# Altium footprint library HMC2003_module.PcbLib: 29 footprints (part 2 of 2)
Each footprint in its own frame and in the unit in brackets; x right, y up, seen from the top. Pads: shape width x height; smd on the part's side, far side on the other; paste and mask are expansions set on the pad; w line width, h text height; cw(c..) or ccw(c..) is an arc to the next point about the centre after c.
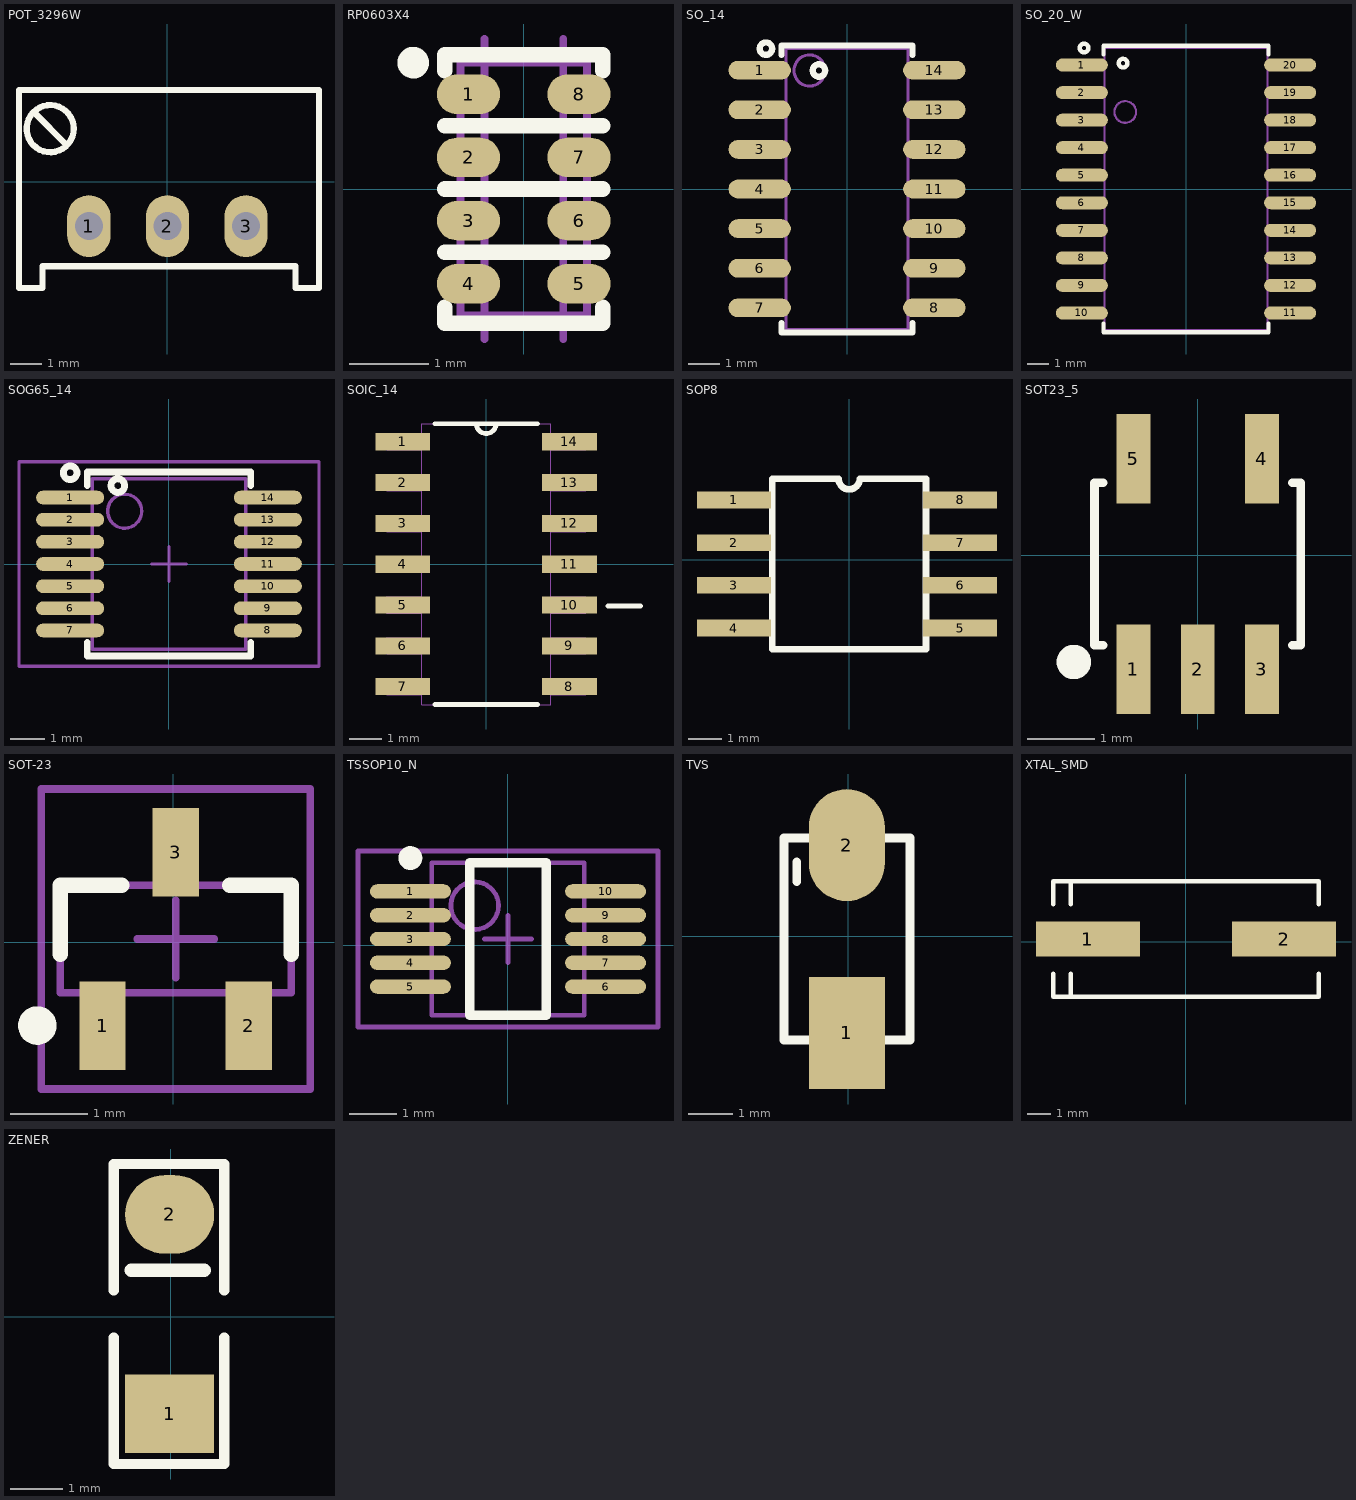
[diagram p1: the footprints below, top view; thin cyan lines are the x and y axes]

## POT_3296W [mm] "POT, TRIM, 10.0X5.0mm, pitch: 2.5mm 3299W 3296W S64W"
pads (3):
  oval 1.4x2 / inner round 1.2 / far side oval 1.4x2 hole 0.9: 1(-2.537,-1.43) 2(0.003,-1.43) 3(2.543,-1.43)
Top Overlay:
  circle w0.2: c-3.788,1.721 r0.762
  lines w0.2: -4.296,2.229 -3.28,1.213 ; -4.797,-3.43 -4.042,-3.43 -4.042,-2.73 4.148,-2.73 4.148,-3.43 4.903,-3.43 4.903,2.97 -4.797,2.97 -4.797,-3.43
3D body "pot 3299W-1-103RLF.step": height 11.56, standoff -6.22, extent -4.722,-3.278 4.803,2.818

## RP0603X4 [mm] "RPACK, 0603X4, 160X80X4 1206"
height 0.4
pads (8):
  oval 0.8x0.5 smd: 1(-0.7,1.2) 2(-0.7,0.4) 3(-0.7,-0.4) 4(-0.7,-1.2) 5(0.7,-1.2) 6(0.7,-0.4) 7(0.7,0.4) 8(0.7,1.2)
Top Overlay:
  circle w0.2: c-1.4,1.6 r0.1
  lines w0.2: -1,-1.5 -1,-1.7 1,-1.7 1,-1.5 ; -1,-0.8 1,-0.8 ; -1,0 1,0 ; -1,0.8 1,0.8 ; -1,1.5 -1,1.7 1,1.7 1,1.5
Mechanical 13:
  lines w0.1: -0.5,-1.9 -0.5,1.9 ; 0.5,-1.9 0.5,1.9 ; -0.8,-1.6 0.8,-1.6 0.8,1.6 -0.8,1.6 -0.8,-1.6
  text "0603X4" at -1.3,-2.6 h0.5
  text "4X0402" at -1.3,2.1 h0.5
3D body "User Library-Array-1206-4Way-Var1.STEP": height 0.5, standoff 0, extent -0.8,-1.6 0.8,1.6

## SO_14 [mm] "SOP, SOIC, 3.9mm width, 1.27mm pitch,"
pads (14):
  oval 2x0.6 smd: 1(-2.8,3.81) 2(-2.8,2.54) 3(-2.8,1.27) 4(-2.8,0) 5(-2.8,-1.27) 6(-2.8,-2.54) 7(-2.8,-3.81) 8(2.8,-3.81) 9(2.8,-2.54) 10(2.8,-1.27) 11(2.8,0) 12(2.8,1.27) 13(2.8,2.54) 14(2.8,3.81)
Top Overlay:
  circle w0.2: c-2.6,4.5 r0.2
  circle w0.2: c-0.9,3.8 r0.2
  lines w0.2: -2.1,-4.3 -2.1,-4.6 2.1,-4.6 2.1,-4.3 ; -2.1,4.3 -2.1,4.6 2.1,4.6 2.1,4.3
Mechanical 13:
  circle w0.1: c-1.2,3.8 r0.5
  lines w0.1: -1.95,-4.5 1.95,-4.5 1.95,4.5 -1.95,4.5 -1.95,-4.5
3D body "User Library-SOIC14_JEDEC_MS-012AB.step": height 1.75, standoff -0.01, extent -3.1,-4.375 3.1,4.375

## SO_20_W [mm] "SOP, SOIC, 7.5mm width, 1.27mm pitch,"
pads (20):
  oval 2.4x0.6 smd: 1(-4.8,5.715) 2(-4.8,4.445) 3(-4.8,3.175) 4(-4.8,1.905) 5(-4.8,0.635) 6(-4.8,-0.635) 7(-4.8,-1.905) 8(-4.8,-3.175) 9(-4.8,-4.445) 10(-4.8,-5.715) 11(4.8,-5.715) 12(4.8,-4.445) 13(4.8,-3.175) 14(4.8,-1.905) 15(4.8,-0.635) 16(4.8,0.635) 17(4.8,1.905) 18(4.8,3.175) 19(4.8,4.445) 20(4.8,5.715)
Top Overlay:
  circle w0.2: c-2.9,5.8 r0.2
  circle w0.2: c-4.7,6.5 r0.2
  lines w0.2: -3.8,-6.2 -3.8,-6.6 3.8,-6.6 3.8,-6.2 ; -3.8,6.2 -3.8,6.6 3.8,6.6 3.8,6.2
Mechanical 13:
  circle w0.1: c-2.8,3.55 r0.5
  lines w0.1: -3.75,-6.5 3.75,-6.5 3.75,6.5 -3.75,6.5 -3.75,-6.5
3D body "User Library-SOIC20_W.STEP": height 2.65, standoff 0, extent -5.325,-6.5 5.325,6.5

## SOG65_14 [mm] "PW TSSOP (TI), MO-153-AB (JEDEC), 14Lead, pitch: 0.65mm, 5x4.4x1.2mm"
height 1.2
pads (14):
  oval 2x0.4 smd: 1(-2.9,1.95) 2(-2.9,1.3) 3(-2.9,0.65) 4(-2.9,0) 5(-2.9,-0.65) 6(-2.9,-1.3) 7(-2.9,-1.95) 8(2.9,-1.95) 9(2.9,-1.3) 10(2.9,-0.65) 11(2.9,0) 12(2.9,0.65) 13(2.9,1.3) 14(2.9,1.95)
Top Overlay:
  circle w0.2: c-2.9,2.675 r0.2
  circle w0.2: c-1.5,2.3 r0.2
  lines w0.2: -2.4,-2.3 -2.4,-2.7 2.4,-2.7 2.4,-2.3 ; -2.4,2.3 -2.4,2.7 2.4,2.7 2.4,2.3
Mechanical 13:
  circle w0.1: c-1.3,1.55 r0.5
  lines w0.1: -2.25,-2.5 -2.25,2.5 2.25,2.5 2.25,-2.5 -2.25,-2.5
Mechanical 15:
  lines w0.1: -0.5,0 0.5,0 ; 0,-0.5 0,0.5 ; -4.4,-3 -4.4,3 4.4,3 4.4,-3 -4.4,-3
3D body "User Library-TSSOP14-1.step": height 1.1, standoff 0, extent -3.2,-2.5 3.2,2.5

## SOIC_14 [mil]
pads (14):
  rect 67x21 smd: 1(-102,150) 2(-102,100) 3(-102,50) 4(-102,0) 5(-102,-50) 6(-102,-100) 7(-102,-150) 8(102,-150) 9(102,-100) 10(102,-50) 11(102,0) 12(102,50) 13(102,100) 14(102,150)
Top Overlay:
  lines w6: -63,-172 63,-172 ; -63,172 -12,172 ; 63,172 12,172 ; 149,-51 189,-51 ; -12,172 ccw(c0,172) 12,172 ; -12,172 12,172
Mechanical 13:
  lines w0: -12,172 ccw(c0,172) 12,172 ; -12,172 12,172 ; -12,172 -79,172 -79,-172 79,-172 79,172 12,172 ; -122,-160 -122,-140 -79,-140 -79,-160 -122,-160 ; -122,-110 -122,-90 -79,-90 -79,-110 -122,-110 ; -122,-60 -122,-40 -79,-40 -79,-60 -122,-60 ; -122,-10 -122,10 -79,10 -79,-10 -122,-10 ; -122,40 -122,60 -79,60 -79,40 -122,40 ; -122,90 -122,110 -79,110 -79,90 -122,90 ; -122,140 -122,160 -79,160 -79,140 -122,140 ; 79,-160 79,-140 122,-140 122,-160 79,-160 ; 79,-110 79,-90 122,-90 122,-110 79,-110 ; 79,-60 79,-40 122,-40 122,-60 79,-60 ; 79,-10 79,10 122,10 122,-10 79,-10 ; 79,40 79,60 122,60 122,40 79,40 ; 79,90 79,110 122,110 122,90 79,90 ; 79,140 79,160 122,160 122,140 79,140

## SOP8 [mm]
pads (8):
  rect 2.2x0.5 smd: 1(-3.429,1.778) 2(-3.429,0.508) 3(-3.429,-0.762) 4(-3.429,-2.032) 5(3.298,-2.032) 6(3.298,-0.762) 7(3.298,0.508) 8(3.298,1.778)
Top Overlay:
  lines w0.2: -2.286,-2.667 -2.286,2.413 -0.32,2.413 ccw(c-0.002,2.413) 0.315,2.413 2.286,2.413 2.286,-2.667 -2.286,-2.667
3D body "User Library-so8-3.step": height 1.7, standoff 0, extent -3.006,-2.564 2.994,2.336

## SOT23_5 [mm]
pads (5):
  rect 0.5x1.321 smd: 1(-0.95,-1.683) 2(0,-1.683) 3(0.95,-1.683) 4(0.95,1.429) 5(-0.95,1.429)
Top Overlay:
  circle w0.254: c-1.829,-1.575 r0.127
  lines w0.127: -1.397,-1.327 -1.524,-1.327 -1.524,-0.127 -1.524,1.073 -1.397,1.073 ; 1.397,-1.327 1.524,-1.327 1.524,-0.127 1.524,1.073 1.397,1.073
3D body "TLE4966.STEP": height 1.3, standoff 0, extent -1.5,-1.627 1.5,1.373

## SOT-23 [mm]
pads (3):
  rect 0.6x1.15 smd: 1(-0.919,-1.081) 2(0.981,-1.081) 3(0.031,1.169)
Top Overlay:
  circle w0.25: c-1.769,-1.081 r0.125
  lines w0.2: -1.469,-0.156 -1.469,0.744 -0.669,0.744 ; 0.731,0.744 1.531,0.744 1.531,-0.156
Mechanical 13:
  lines w0.1: -1.469,-0.656 -1.469,0.744 1.531,0.744 1.531,-0.656 -1.469,-0.656
Mechanical 15:
  lines w0.1: -0.469,0.044 0.531,0.044 ; 0.031,-0.456 0.031,0.544 ; -1.719,-1.906 -1.719,1.994 1.781,1.994 1.781,-1.906 -1.719,-1.906
3D body "User Library-N-MOS_BSS123_SOT23.STEP": height 1, standoff 0, extent -1.419,-1.181 1.481,1.119

## TSSOP10_N [mm]
pads (10):
  oval 1.7x0.3 smd: 1(-2.05,1.127) 2(-2.05,0.627) 3(-2.05,0.127) 4(-2.05,-0.373) 5(-2.05,-0.873) 6(2.05,-0.873) 7(2.05,-0.373) 8(2.05,0.127) 9(2.05,0.627) 10(2.05,1.127)
Top Overlay:
  circle w0.25: c-2.05,1.827 r0.125
  lines w0.2: -0.8,-1.473 -0.8,1.727 0.8,1.727 0.8,-1.473 -0.8,-1.473
Mechanical 13:
  circle w0.1: c-0.7,0.827 r0.5
  lines w0.1: -1.6,-1.473 -1.6,1.727 1.6,1.727 1.6,-1.473 -1.6,-1.473
Mechanical 15:
  lines w0.1: -0.5,0.127 0.5,0.127 ; 0,-0.373 0,0.627 ; -3.15,-1.723 -3.15,1.977 3.15,1.977 3.15,-1.723 -3.15,-1.723
3D body: height 1.1, standoff 0, extent -1.6,-1.473 1.6,1.727

## TVS [mm]
pads (2):
  rect 1.7x2.5 smd: 1(-0.025,-2.159)
  oval 1.7x2.5 smd: 2(-0.025,2.032)
Top Overlay:
  lines w0.2: -1.143,1.219 -1.143,1.651 ; -1.422,-2.316 -1.422,2.184 1.378,2.184 1.378,-2.316 -1.422,-2.316
3D body: height 2.23, standoff 0, extent -1.502,1.803 1.422,2.007
3D body: height 2.2, standoff 0, extent -1.499,-2.54 1.421,2.515
3D body: height 1.5, standoff 0, extent -1.016,-2.756 0.965,-2.527
3D body: height 1.5, standoff 0, extent -1.016,2.515 0.965,2.743

## XTAL_SMD [mm]
pads (2):
  rect 4.5x1.5 smd: 1(-4.243,0.117) 2(4.257,0.117)
Top Overlay:
  lines w0.2: -5.743,-1.383 -5.743,-2.383 5.757,-2.383 5.757,-1.383 ; -5.743,1.617 -5.743,2.617 5.757,2.617 5.757,1.617 ; -4.993,-2.383 -4.993,-1.383 ; -4.993,1.617 -4.993,2.617
3D body "User Library-HC49_SMD.STEP": height 5.18, standoff 0, extent -6.202,-2.133 6.098,2.367

## ZENER [mm]
pads (2):
  rect 1.7x1.5 smd mask+0.102: 1(-0.025,-1.854)
  oval 1.7x1.5 smd: 2(-0.025,1.956)
Top Overlay:
  lines w0.2: -1.092,-0.406 -1.092,-2.819 1.016,-2.819 1.016,-0.406 ; -1.092,0.508 -1.092,2.921 1.016,2.921 1.016,0.508
  lines w0.254: -0.762,0.889 0.635,0.889
3D body: height 1.6, standoff 0, extent -0.822,1.399 0.771,1.499
3D body: height 1.6, standoff 0, extent -0.822,-1.778 0.771,-1.378
3D body: height 1.6, standoff 0, extent -0.822,1.499 0.771,1.899
3D body: height 1.6, standoff 0, extent -0.822,-0.295 0.771,0.305
3D body: height 1.6, standoff 0, extent -0.822,0.297 0.771,1.397
3D body: height 1.6, standoff 0, extent -0.822,-1.379 0.771,-0.279